# Altium footprint library PCB - DIODES - DIODES INC SMAF.PcbLib: 1 footprints
Each footprint in its own frame and in the unit in brackets; x right, y up, seen from the top. Pads: shape width x height; smd on the part's side, far side on the other; paste and mask are expansions set on the pad; w line width, h text height; cw(c..) or ccw(c..) is an arc to the next point about the centre after c.
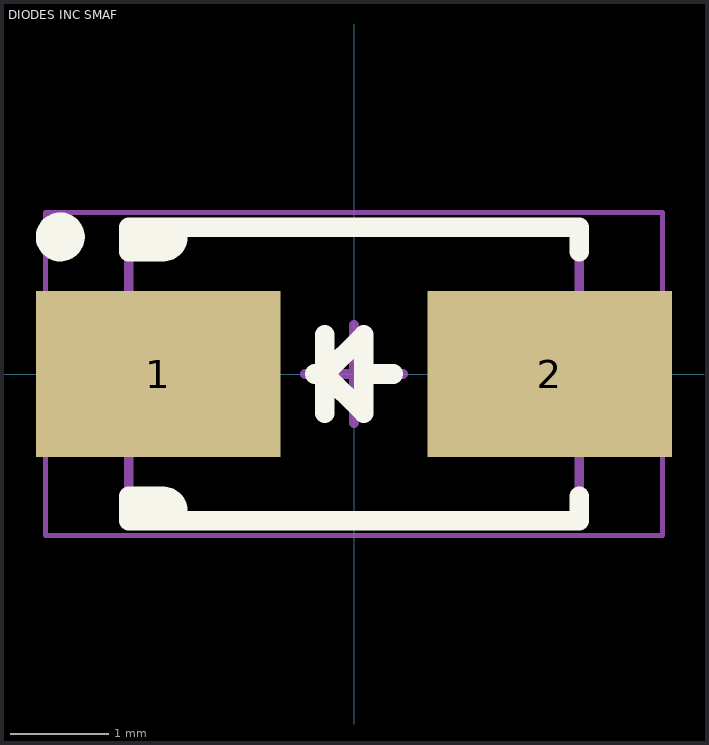
[diagram p0: the footprint, top view; thin cyan lines are the x and y axes]

## DIODES INC SMAF [mm] "SODFL, 2-Leads, Body 2.60x5.20mm, IPC Medium Density"
height 1.1
pads (2):
  rect 2.5x1.7 smd: 1(-2,0) 2(2,0)
Top Overlay:
  circle w0.25: c-3,1.4 r0.125
  rectangle: -2.3,1.25 -1.8,1.5
  rectangle: -2.3,-1.5 -1.8,-1.25
  lines w0.2: -1.8,-1.4 ccw(c-1.95,-1.4) -1.95,-1.25 -2.3,-1.25 -2.3,-1.5 2.3,-1.5 2.3,-1.25 ; -1.8,1.4 cw(c-1.95,1.4) -1.95,1.25 -2.3,1.25 -2.3,1.5 2.3,1.5 2.3,1.25 ; -0.4,0 -0.3,0 ; -0.3,-0.4 -0.3,0 ; -0.3,0.4 -0.3,0 ; 0.4,0 0.1,0 ; -0.3,0 0.1,0.4 0.1,0 ; -0.3,0 0.1,-0.4 0.1,0
Mechanical 13:
  lines w0.1: -2.3,-1.475 2.3,-1.475 2.3,1.475 -2.3,1.475 -2.3,-1.475
Mechanical 15:
  lines w0.05: -3.15,-1.65 3.15,-1.65 3.15,1.65 -3.15,1.65 -3.15,-1.65
  lines w0.1: -0.5,0 0.5,0 ; 0,-0.5 0,0.5
3D body "DIODES INC - SMAF.step": height 1.1, standoff 0, extent -2.6,-1.475 2.6,1.475